# EAGLE library part TXB0104 (library dooba)
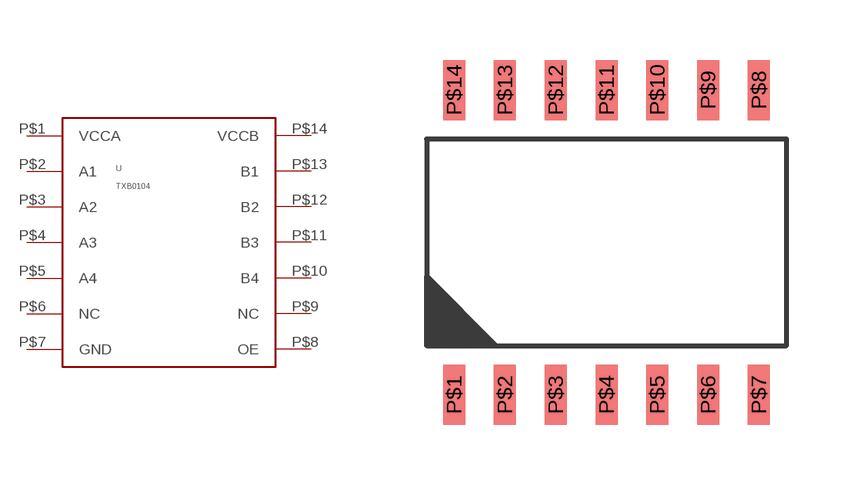
[diagram p46: symbol with the pads of SO14; footprint SO14]

Designator prefix U

## TXB0104  [SO14]
P$1  VCCA
P$2  A1
P$3  A2
P$4  A3
P$5  A4
P$6  NC
P$7  GND
P$8  OE
P$9  NC
P$10  B4
P$11  B3
P$12  B2
P$13  B1
P$14  VCCB

## Footprint SO14 (pad centres in mm)
smd 0.55 x 1.5: P$1 -3.81,-3.81; P$2 -2.54,-3.81; P$3 -1.27,-3.81; P$4 0,-3.81; P$5 1.27,-3.81; P$6 2.54,-3.81; P$7 3.81,-3.81; P$8 3.81,3.81; P$9 2.54,3.81; P$10 1.27,3.81; P$11 0,3.81; P$12 -1.27,3.81; P$13 -2.54,3.81; P$14 -3.81,3.81